# Altium integrated library Microfon.IntLib: 19 symbols
Pins are listed as number, name and electrical type; pins without a type are passive.

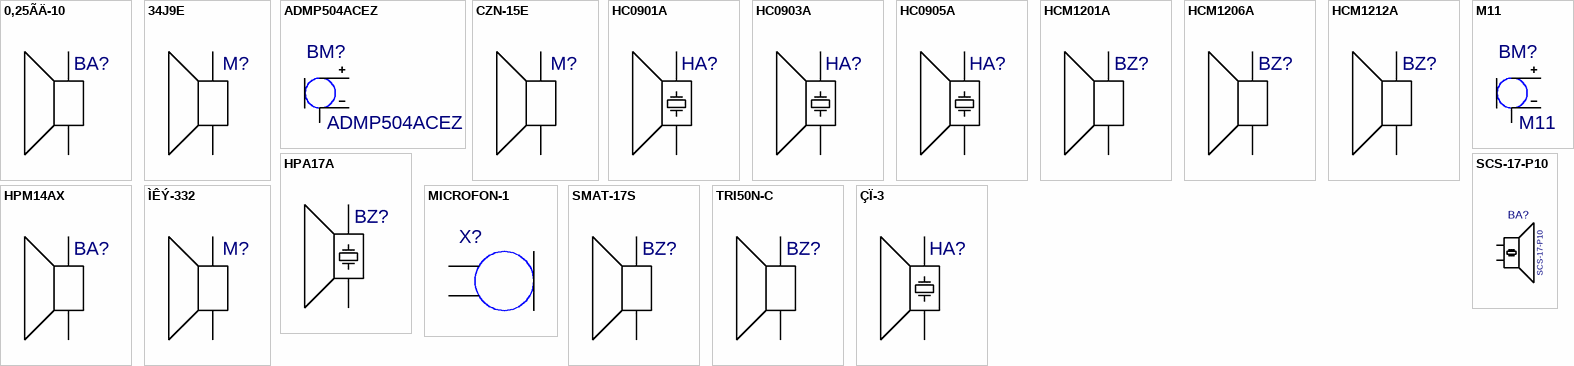
[diagram p0: symbols 0,25ÃÄ-10 to ÌÊÝ-332]

## 0,25ÃÄ-10
designator BA?  (value not drawn)
Value: *
footprint 0,25ÃÄ-10
pins: 1, 2, 3 hidden, 4 hidden, 5 hidden, 6 hidden

## 34J9E
designator M?  (value not drawn)
Value: *
footprint 34J9E
pins: 1 I/O1, 2 I/O2

## ADMP504ACEZ
designator BM?
Value: *
footprint ADMP504 
pins: 1 OUT, 2 GND, 3 VDD

## CZN-15E
designator M?  (value not drawn)
Value: *
footprint CZN-15E
pins: 1 I/O1, 2 I/O2

## HC0901A
designator HA?  (value not drawn)
Value: *
footprint HC0901A
pins: 1, 2

## HC0903A
designator HA?  (value not drawn)
Value: *
footprint HC0901A
pins: 1, 2

## HC0905A
designator HA?  (value not drawn)
Value: *
footprint HC0901A
pins: 1, 2

## HCM1201A
designator BZ?  (value not drawn)
Value: *
footprint HCM12
pins: 1, 2

## HCM1206A
designator BZ?  (value not drawn)
Value: *
footprint HCM12
pins: 1, 2

## HCM1212A
designator BZ?  (value not drawn)
Value: *
footprint HCM12
pins: 1, 2

## HPA17A
designator BZ?  (value not drawn)
Value: *
footprint HPA17A
pins: 1, 2

## HPM14AX
designator BA?  (value not drawn)
Value: *
footprint HPM14AX
pins: 1, 2

## M11
designator BM?
Value: *
footprint M11
pins: 1 OUT, 2 GND, 3 VDD, 4 hidden, 5 hidden, 6 hidden, 7 hidden

## MICROFON-1
designator X?  (value not drawn)
Value: *
footprint KLEM-VINT-STEP-5MM
pins: 1, 2

## SCS-17-P10
designator BA?
Value: *
footprint SCS-17
pins: 1, 2

## SMAT-17S
designator BZ?  (value not drawn)
Value: *
footprint SMAT-17S
pins: 1, 2

## TRI50N-C
designator BZ?  (value not drawn)
Value: *
footprint TRI50N-C
pins: 1, 2

## ÇÏ-3
designator HA?  (value not drawn)
Value: *
footprint ÇÏ-1
pins: 1, 2

## ÌÊÝ-332
designator M?  (value not drawn)
Value: *
footprint ÌÊÝ-332
pins: 1 I/O1, 2 I/O2